# Altium footprint library SSOP28.PcbLib: 1 footprints
Each footprint in its own frame and in the unit in brackets; x right, y up, seen from the top. Pads: shape width x height; smd on the part's side, far side on the other; paste and mask are expansions set on the pad; w line width, h text height; cw(c..) or ccw(c..) is an arc to the next point about the centre after c.
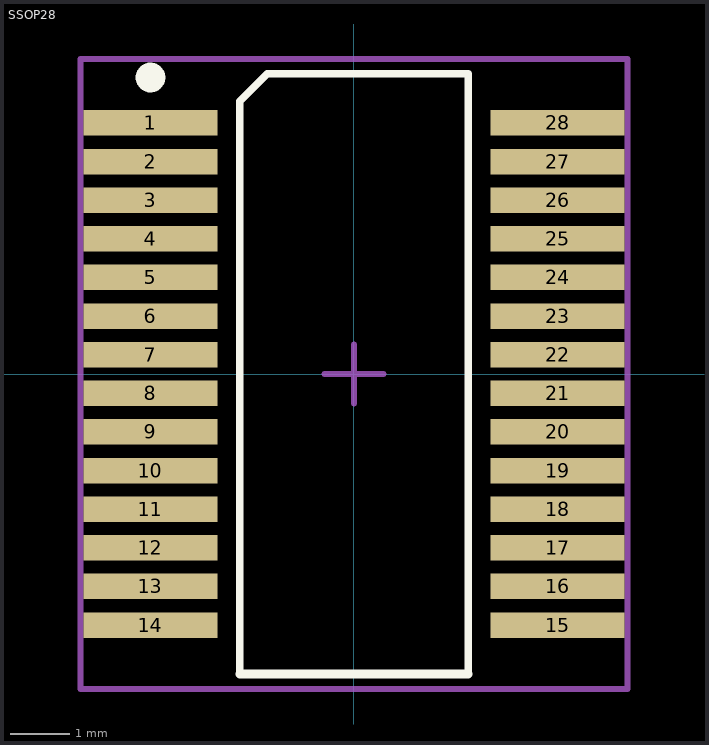
[diagram p0: the footprint, top view; thin cyan lines are the x and y axes]

## SSOP28 [mm] "SOP, 28-Leads, Body 10,1x5,3mm (max), Pitch 0,65mm, IPC Medium Density"
height 1.84
pads (28):
  rect 2.26x0.43 smd mask+0.08: 1(-3.425,4.225) 2(-3.425,3.575) 3(-3.425,2.925) 4(-3.425,2.275) 5(-3.425,1.625) 6(-3.425,0.975) 7(-3.425,0.325) 8(-3.425,-0.325) 9(-3.425,-0.975) 10(-3.425,-1.625) 11(-3.425,-2.275) 12(-3.425,-2.925) 13(-3.425,-3.575) 14(-3.425,-4.225) 15(3.425,-4.225) 16(3.425,-3.575) 17(3.425,-2.925) 18(3.425,-2.275) 19(3.425,-1.625) 20(3.425,-0.975) 21(3.425,-0.325) 22(3.425,0.325) 23(3.425,0.975) 24(3.425,1.625) 25(3.425,2.275) 26(3.425,2.925) 27(3.425,3.575) 28(3.425,4.225)
Top Overlay:
  circle w0.25: c-3.425,4.99 r0.125
  lines w0.127: -1.922,-5.05 -1.922,4.586 -1.458,5.05 1.922,5.05 1.922,-5.05
  lines w0.152: -1.922,-5.05 1.922,-5.05
Mechanical 15:
  lines w0.1: -0.5,0 0.5,0 ; 0,-0.5 0,0.5 ; -4.6,-5.3 4.6,-5.3 4.6,5.3 -4.6,5.3 -4.6,-5.3
3D body: height 1.13, standoff -0.01, extent -3.213,-4.849 3.187,4.851